# EAGLE library part XFMR_164D (library wheat)
XFMR, 50/60HZ 1.1VA HAMMOND 162D SERIES
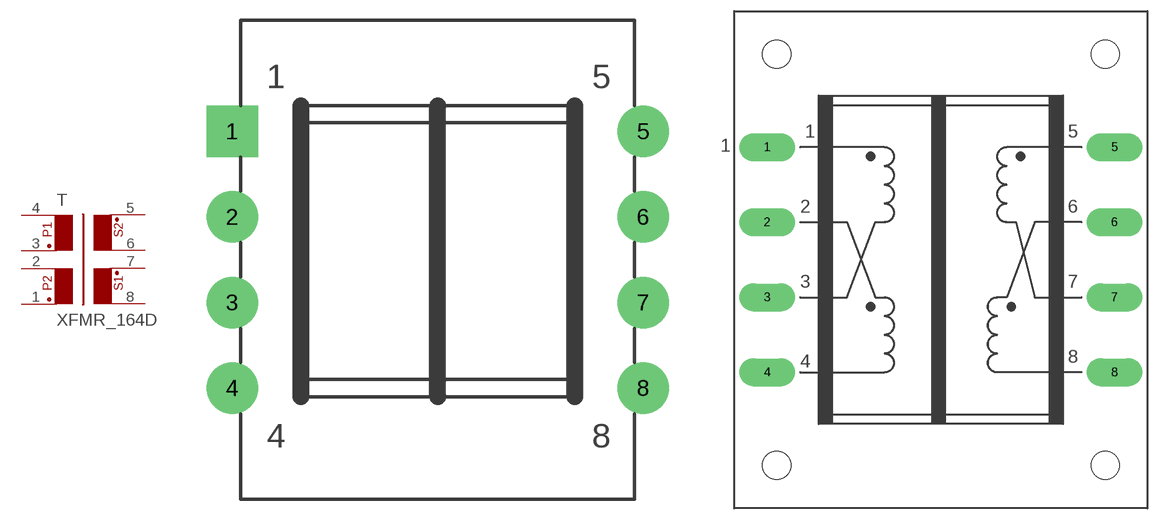
[diagram p79: symbol with the pads of XFMR_164D; footprints XFMR_164D, XFMR_164J]

Designator prefix T

## XFMR_164D  [XFMR_164D]
1  1  pas
2  2  pas
3  3  pas
4  4  pas
5  5  pas
6  6  pas
7  7  pas
8  8  pas

## XFMR_164DJ  [XFMR_164J]
Pads as for XFMR_164D

## Footprint XFMR_164D (pad centres in mm)
XFMR, 50/60HZ, 1.1VA HAMMOND 164D SERIES
drill 1.676 pad 3.81 square: 1 -15.24,9.525
drill 1.676 pad 3.81: 2 -15.24,3.175; 3 -15.24,-3.175; 4 -15.24,-9.525; 5 15.24,9.525; 6 15.24,3.175; 7 15.24,-3.175; 8 15.24,-9.525

## Footprint XFMR_164J (pad centres in mm)
Transformer, 36VA split-bobin Hammopnd 164J, Triad FS, etc.
drill 1.676 pad 3.81 long: 1 -23.495,15.24; 2 -23.495,5.08; 3 -23.495,-5.08; 4 -23.495,-15.24; 5 23.495,15.24; 6 23.495,5.08; 7 23.495,-5.08; 8 23.495,-15.24
hole 3.81 at -22.225,27.813
hole 3.81 at 22.225,27.813
hole 3.81 at -22.225,-27.813
hole 3.81 at 22.225,-27.813